# EAGLE library part 24*256 (library Microchip)
256K I2C CMOS Serial EEPROM
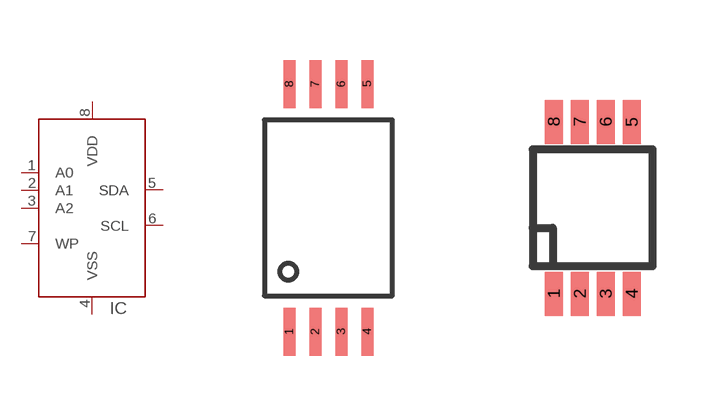
[diagram p9: symbol with the pads of TSSOP8-ST; footprints TSSOP8-ST, MSOP8-MS]

Designator prefix IC

## 24AA256ST, 24FC256ST, 24LC256ST  [TSSOP8-ST]
1  A0
2  A1
3  A2
4  VSS
5  SDA
6  SCL
7  WP
8  VDD

## 24AA256MS, 24FC256MS, 24LC256MS  [MSOP8-MS]
Pads as for TSSOP8-ST

## Footprint TSSOP8-ST (pad centres in mm)
8-Lead Plastic Thin Shrink Small Outline (ST) - 4.4mm Body [TSSOP]
smd 0.3 x 1.2: 1 -0.975,-3.1; 2 -0.325,-3.1; 3 0.325,-3.1; 4 0.975,-3.1; 5 0.975,3.1; 6 0.325,3.1; 7 -0.325,3.1; 8 -0.975,3.1

## Footprint MSOP8-MS (pad centres in mm)
8-Lead Plastic Micro Small Outline Package (MSOP), Microchip package MS
smd 0.45 x 1.1: 1 -0.975,-2.15; 2 -0.325,-2.15; 3 0.325,-2.15; 4 0.975,-2.15; 5 0.975,2.15; 6 0.325,2.15; 7 -0.325,2.15; 8 -0.975,2.15